# EAGLE library part HR911105A_HR911105A (library Blueberry Pi)
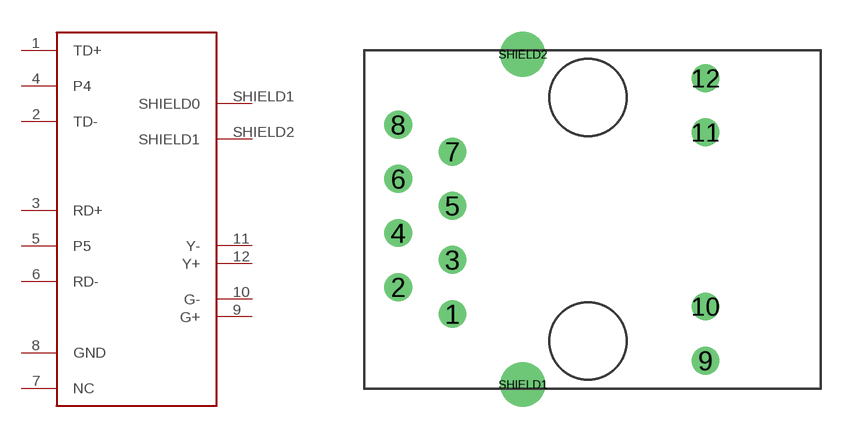
[diagram p3: symbol with the pads of HR911105A_RJ45; footprint HR911105A_RJ45]

Designator prefix -

## HR911105A_HR911105A  [HR911105A_RJ45]
1  TD+
2  TD-
3  RD+
4  P4
5  P5
6  RD-
7  NC
8  GND
9  G+
10  G-
11  Y-
12  Y+
SHIELD1  SHIELD0
SHIELD2  SHIELD1

## Footprint HR911105A_RJ45 (pad centres in mm)
drill 0.8: 1 -6.03,-4.12; 2 -8.57,-2.86; 3 -6.03,-1.58; 4 -8.57,-0.32; 5 -6.03,0.96; 6 -8.57,2.22; 7 -6.03,3.5; 8 -8.57,4.76; 9 5.84,-6.305; 10 5.84,-3.765; 11 5.84,4.405; 12 5.84,6.945
drill 1.4: SHIELD1 -2.73,-7.425; SHIELD2 -2.73,8.065